# Altium schematic symbol library MPU-9250.SchLib: 1 symbol
Pins are listed as number, name and electrical type; pins without a type are passive.

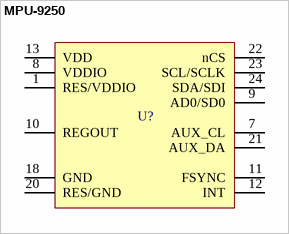
[diagram p0: symbol MPU-9250]

## MPU-9250
designator U?  (value not drawn)
pins: 1 RES/VDDIO, 7 AUX_CL, 8 VDDIO, 9 AD0/SD0, 10 REGOUT, 11 FSYNC, 12 INT, 13 VDD, 18 GND, 20 RES/GND, 21 AUX_DA, 22 nCS, 23 SCL/SCLK, 24 SDA/SDI